# EAGLE library part RP2040-ZERO (library rp2040)
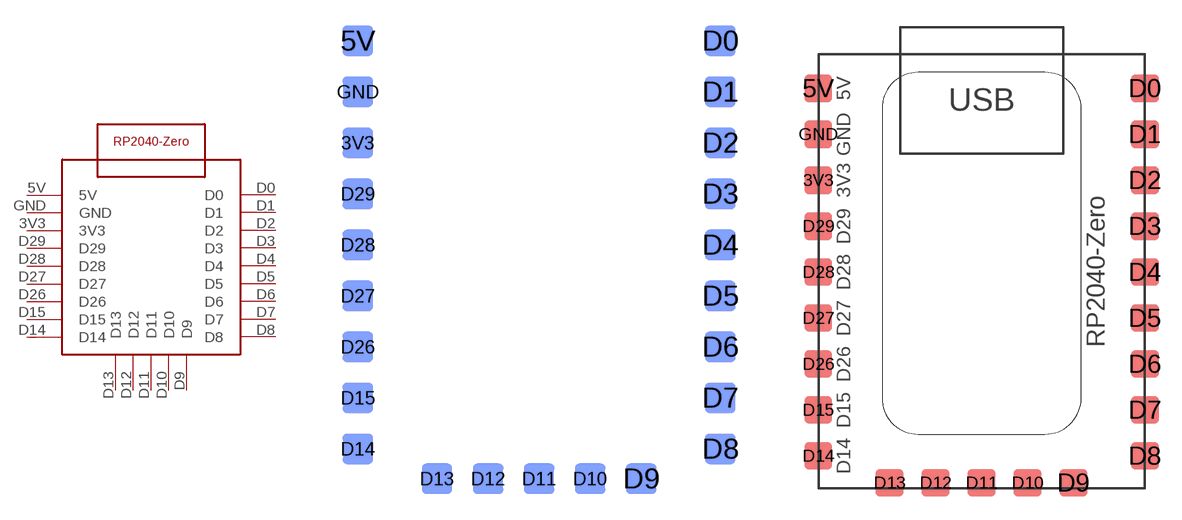
[diagram p1: symbol with the pads of RP2040-ZERO-BSIDE-SMD; footprints RP2040-ZERO-BSIDE-SMD, RP2040-ZERO-ASIDE-SMD]

Designator prefix -

## RP2040-ZEROBACK-SMD  [RP2040-ZERO-BSIDE-SMD]
3V3  3V3
5V  5V
D0  D0
D1  D1
D2  D2
D3  D3
D4  D4
D5  D5
D6  D6
D7  D7
D8  D8
D9  D9
D10  D10
D11  D11
D12  D12
D13  D13
D14  D14
D15  D15
D26  D26
D27  D27
D28  D28
D29  D29
GND  GND

## RP2040-ZEROFRONT-SMD  [RP2040-ZERO-ASIDE-SMD]
Pads as for RP2040-ZERO-BSIDE-SMD

## RP2040-ZEROHOLE  [RP2040-ZERO-HOLE]
Pads as for RP2040-ZERO-BSIDE-SMD

## Footprint RP2040-ZERO-BSIDE-SMD (pad centres in mm)
smd 1.524 x 1.524 bottom: 3V3 -9.017,5.04; 5V -9.017,10.12; D0 9.017,10.12; D1 9.017,7.58; D2 9.017,5.04; D3 9.017,2.5; D4 9.017,-0.04; D5 9.017,-2.58; D6 9.017,-5.12; D7 9.017,-7.66; D8 9.017,-10.2; D9 5.08,-11.684; D10 2.54,-11.684; D11 0,-11.684; D12 -2.54,-11.684; D13 -5.08,-11.684; D14 -9.017,-10.2; D15 -9.017,-7.66; D26 -9.017,-5.12; D27 -9.017,-2.58; D28 -9.017,-0.04; D29 -9.017,2.5; GND -9.017,7.58

## Footprint RP2040-ZERO-ASIDE-SMD (pad centres in mm)
smd 1.524 x 1.524: 3V3 -9.017,5.04; 5V -9.017,10.12; D0 9.017,10.12; D1 9.017,7.58; D2 9.017,5.04; D3 9.017,2.5; D4 9.017,-0.04; D5 9.017,-2.58; D6 9.017,-5.12; D7 9.017,-7.66; D8 9.017,-10.2; D9 5.08,-11.684; D10 2.54,-11.684; D11 0,-11.684; D12 -2.54,-11.684; D13 -5.08,-11.684; D14 -9.017,-10.2; D15 -9.017,-7.66; D26 -9.017,-5.12; D27 -9.017,-2.58; D28 -9.017,-0.04; D29 -9.017,2.5; GND -9.017,7.58

## Footprint RP2040-ZERO-HOLE (pad centres in mm)
drill 1.016 pad 1.676 octagon: 3V3 -7.62,5.08; 5V -7.62,10.16; D0 7.62,10.16; D1 7.62,7.62; D2 7.62,5.08; D3 7.62,2.54; D4 7.62,0; D5 7.62,-2.54; D6 7.62,-5.08; D7 7.62,-7.62; D8 7.62,-10.16; D9 5.08,-10.16; D10 2.54,-10.16; D11 0,-10.16; D12 -2.54,-10.16; D13 -5.08,-10.16; D14 -7.62,-10.16; D15 -7.62,-7.62; D26 -7.62,-5.08; D27 -7.62,-2.54; D28 -7.62,0; D29 -7.62,2.54; GND -7.62,7.62